# Altium integrated library SUYIN D Subminiature.IntLib: 17 symbols
Pins are listed as number, name and electrical type; pins without a type are passive.

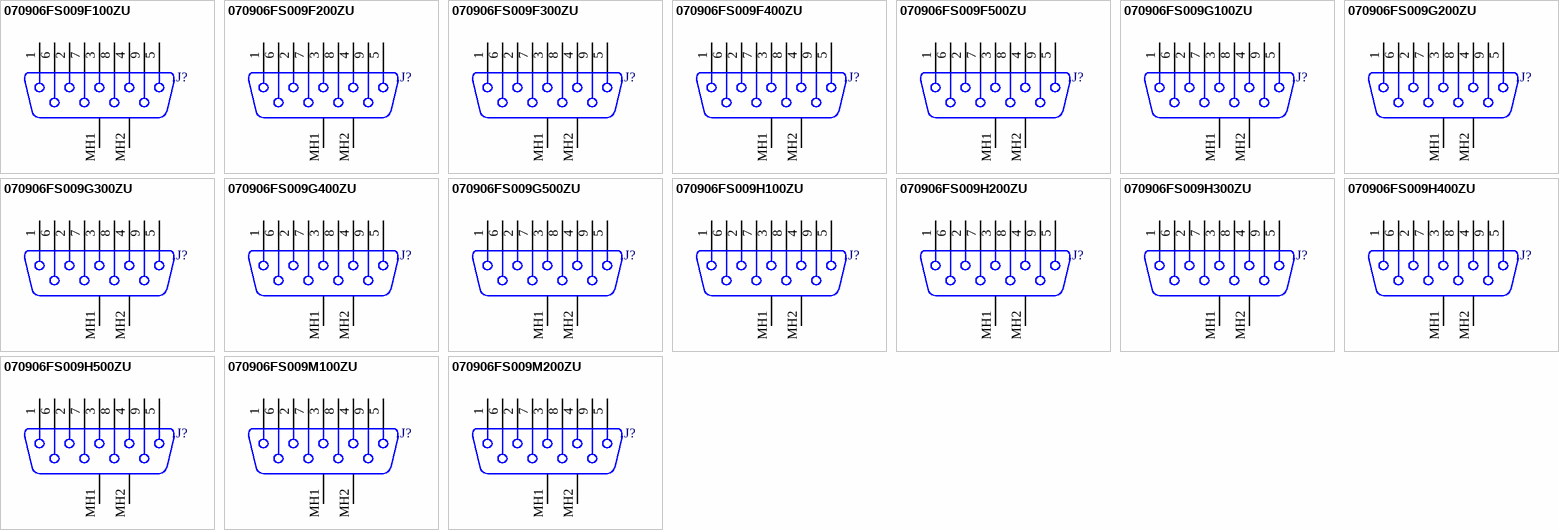
[diagram p0: symbols 070906FS009F100ZU to 070906FS009M200ZU]

## 070906FS009F100ZU
designator J?
Ultra Thin D-Sub, Straight Dip Type, Female Connector, THT, 9 Position, 2.2mm Pin Length; PCB_Layout: Complies with manufacturer's recommendation.; DrillSize: Corresponds to nominal value.; Published: 26-Sep-2008; DatasheetVersion: May-2003; PackageVersion: revK, Nov-2007; PackageReference: 070906FS009; Publisher: Altium Limited; PackageDescription: Connector; D-Sub, Thru-Hole; 9 Position; Vertical; Body 30.81 x 9.60 x 8.20 mm (LxWxH); ComponentLink1Description: Manufacturer Link; ComponentLink1URL: http://www.suyin.com/; ComponentLink2Description: Datasheet; ComponentLink2URL: http://www.suyin.at/pdf/i_o/d_sub/female/straight/070906FS.pdf
footprint 070906FS009 (Connector; D-Sub, Thru-Hole; 9 Position; Vertical; Body 30.81x9.60mm (LxW))
signal-integrity model D Subminiature
pins: 1, 2, 3, 4, 5, 6, 7, 8, 9, MH1, MH2

## 070906FS009F200ZU
designator J?
Ultra Thin D-Sub, Straight Dip Type, Female Connector, THT, 9 Position, 2.2mm Pin Length; PCB_Layout: Complies with manufacturer's recommendation.; DrillSize: Corresponds to nominal value.; Published: 26-Sep-2008; DatasheetVersion: May-2003; PackageVersion: revK, Nov-2007; PackageReference: 070906FS009; Publisher: Altium Limited; PackageDescription: Connector; D-Sub, Thru-Hole; 9 Position; Vertical; Body 30.81 x 9.60 x 8.20 mm (LxWxH); ComponentLink1Description: Manufacturer Link; ComponentLink1URL: http://www.suyin.com/; ComponentLink2Description: Datasheet; ComponentLink2URL: http://www.suyin.at/pdf/i_o/d_sub/female/straight/070906FS.pdf
footprint 070906FS009 (Connector; D-Sub, Thru-Hole; 9 Position; Vertical; Body 30.81x9.60mm (LxW))
signal-integrity model D Subminiature
pins: 1, 2, 3, 4, 5, 6, 7, 8, 9, MH1, MH2

## 070906FS009F300ZU
designator J?
Ultra Thin D-Sub, Straight Dip Type, Female Connector, THT, 9 Position, 2.2mm Pin Length; PCB_Layout: Complies with manufacturer's recommendation.; DrillSize: Corresponds to nominal value.; Published: 26-Sep-2008; DatasheetVersion: May-2003; PackageVersion: revK, Nov-2007; PackageReference: 070906FS009; Publisher: Altium Limited; PackageDescription: Connector; D-Sub, Thru-Hole; 9 Position; Vertical; Body 30.81 x 9.60 x 8.20 mm (LxWxH); ComponentLink1Description: Manufacturer Link; ComponentLink1URL: http://www.suyin.com/; ComponentLink2Description: Datasheet; ComponentLink2URL: http://www.suyin.at/pdf/i_o/d_sub/female/straight/070906FS.pdf
footprint 070906FS009 (Connector; D-Sub, Thru-Hole; 9 Position; Vertical; Body 30.81x9.60mm (LxW))
signal-integrity model D Subminiature
pins: 1, 2, 3, 4, 5, 6, 7, 8, 9, MH1, MH2

## 070906FS009F400ZU
designator J?
Ultra Thin D-Sub, Straight Dip Type, Female Connector, THT, 9 Position, 2.2mm Pin Length; PCB_Layout: Complies with manufacturer's recommendation.; DrillSize: Corresponds to nominal value.; Published: 26-Sep-2008; DatasheetVersion: May-2003; PackageVersion: revK, Nov-2007; PackageReference: 070906FS009; Publisher: Altium Limited; PackageDescription: Connector; D-Sub, Thru-Hole; 9 Position; Vertical; Body 30.81 x 9.60 x 8.20 mm (LxWxH); ComponentLink1Description: Manufacturer Link; ComponentLink1URL: http://www.suyin.com/; ComponentLink2Description: Datasheet; ComponentLink2URL: http://www.suyin.at/pdf/i_o/d_sub/female/straight/070906FS.pdf
footprint 070906FS009 (Connector; D-Sub, Thru-Hole; 9 Position; Vertical; Body 30.81x9.60mm (LxW))
signal-integrity model D Subminiature
pins: 1, 2, 3, 4, 5, 6, 7, 8, 9, MH1, MH2

## 070906FS009F500ZU
designator J?
Ultra Thin D-Sub, Straight Dip Type, Female Connector, THT, 9 Position, 2.2mm Pin Length; PCB_Layout: Complies with manufacturer's recommendation.; DrillSize: Corresponds to nominal value.; Published: 26-Sep-2008; DatasheetVersion: May-2003; PackageVersion: revK, Nov-2007; PackageReference: 070906FS009; Publisher: Altium Limited; PackageDescription: Connector; D-Sub, Thru-Hole; 9 Position; Vertical; Body 30.81 x 9.60 x 8.20 mm (LxWxH); ComponentLink1Description: Manufacturer Link; ComponentLink1URL: http://www.suyin.com/; ComponentLink2Description: Datasheet; ComponentLink2URL: http://www.suyin.at/pdf/i_o/d_sub/female/straight/070906FS.pdf
footprint 070906FS009 (Connector; D-Sub, Thru-Hole; 9 Position; Vertical; Body 30.81x9.60mm (LxW))
signal-integrity model D Subminiature
pins: 1, 2, 3, 4, 5, 6, 7, 8, 9, MH1, MH2

## 070906FS009G100ZU
designator J?
Ultra Thin D-Sub, Straight Dip Type, Female Connector, THT, 9 Position, 2.2mm Pin Length; PCB_Layout: Complies with manufacturer's recommendation.; DrillSize: Corresponds to nominal value.; Published: 26-Sep-2008; DatasheetVersion: May-2003; PackageVersion: revK, Nov-2007; PackageReference: 070906FS009; Publisher: Altium Limited; PackageDescription: Connector; D-Sub, Thru-Hole; 9 Position; Vertical; Body 30.81 x 9.60 x 8.20 mm (LxWxH); ComponentLink1Description: Manufacturer Link; ComponentLink1URL: http://www.suyin.com/; ComponentLink2Description: Datasheet; ComponentLink2URL: http://www.suyin.at/pdf/i_o/d_sub/female/straight/070906FS.pdf
footprint 070906FS009 (Connector; D-Sub, Thru-Hole; 9 Position; Vertical; Body 30.81x9.60mm (LxW))
signal-integrity model D Subminiature
pins: 1, 2, 3, 4, 5, 6, 7, 8, 9, MH1, MH2

## 070906FS009G200ZU
designator J?
Ultra Thin D-Sub, Straight Dip Type, Female Connector, THT, 9 Position, 2.2mm Pin Length; PCB_Layout: Complies with manufacturer's recommendation.; DrillSize: Corresponds to nominal value.; Published: 26-Sep-2008; DatasheetVersion: May-2003; PackageVersion: revK, Nov-2007; PackageReference: 070906FS009; Publisher: Altium Limited; PackageDescription: Connector; D-Sub, Thru-Hole; 9 Position; Vertical; Body 30.81 x 9.60 x 8.20 mm (LxWxH); ComponentLink1Description: Manufacturer Link; ComponentLink1URL: http://www.suyin.com/; ComponentLink2Description: Datasheet; ComponentLink2URL: http://www.suyin.at/pdf/i_o/d_sub/female/straight/070906FS.pdf
footprint 070906FS009 (Connector; D-Sub, Thru-Hole; 9 Position; Vertical; Body 30.81x9.60mm (LxW))
signal-integrity model D Subminiature
pins: 1, 2, 3, 4, 5, 6, 7, 8, 9, MH1, MH2

## 070906FS009G300ZU
designator J?
Ultra Thin D-Sub, Straight Dip Type, Female Connector, THT, 9 Position, 2.2mm Pin Length; PCB_Layout: Complies with manufacturer's recommendation.; DrillSize: Corresponds to nominal value.; Published: 26-Sep-2008; DatasheetVersion: May-2003; PackageVersion: revK, Nov-2007; PackageReference: 070906FS009; Publisher: Altium Limited; PackageDescription: Connector; D-Sub, Thru-Hole; 9 Position; Vertical; Body 30.81 x 9.60 x 8.20 mm (LxWxH); ComponentLink1Description: Manufacturer Link; ComponentLink1URL: http://www.suyin.com/; ComponentLink2Description: Datasheet; ComponentLink2URL: http://www.suyin.at/pdf/i_o/d_sub/female/straight/070906FS.pdf
footprint 070906FS009 (Connector; D-Sub, Thru-Hole; 9 Position; Vertical; Body 30.81x9.60mm (LxW))
signal-integrity model D Subminiature
pins: 1, 2, 3, 4, 5, 6, 7, 8, 9, MH1, MH2

## 070906FS009G400ZU
designator J?
Ultra Thin D-Sub, Straight Dip Type, Female Connector, THT, 9 Position, 2.2mm Pin Length; PCB_Layout: Complies with manufacturer's recommendation.; DrillSize: Corresponds to nominal value.; Published: 26-Sep-2008; DatasheetVersion: May-2003; PackageVersion: revK, Nov-2007; PackageReference: 070906FS009; Publisher: Altium Limited; PackageDescription: Connector; D-Sub, Thru-Hole; 9 Position; Vertical; Body 30.81 x 9.60 x 8.20 mm (LxWxH); ComponentLink1Description: Manufacturer Link; ComponentLink1URL: http://www.suyin.com/; ComponentLink2Description: Datasheet; ComponentLink2URL: http://www.suyin.at/pdf/i_o/d_sub/female/straight/070906FS.pdf
footprint 070906FS009 (Connector; D-Sub, Thru-Hole; 9 Position; Vertical; Body 30.81x9.60mm (LxW))
signal-integrity model D Subminiature
pins: 1, 2, 3, 4, 5, 6, 7, 8, 9, MH1, MH2

## 070906FS009G500ZU
designator J?
Ultra Thin D-Sub, Straight Dip Type, Female Connector, THT, 9 Position, 2.2mm Pin Length; PCB_Layout: Complies with manufacturer's recommendation.; DrillSize: Corresponds to nominal value.; Published: 26-Sep-2008; DatasheetVersion: May-2003; PackageVersion: revK, Nov-2007; PackageReference: 070906FS009; Publisher: Altium Limited; PackageDescription: Connector; D-Sub, Thru-Hole; 9 Position; Vertical; Body 30.81 x 9.60 x 8.20 mm (LxWxH); ComponentLink1Description: Manufacturer Link; ComponentLink1URL: http://www.suyin.com/; ComponentLink2Description: Datasheet; ComponentLink2URL: http://www.suyin.at/pdf/i_o/d_sub/female/straight/070906FS.pdf
footprint 070906FS009 (Connector; D-Sub, Thru-Hole; 9 Position; Vertical; Body 30.81x9.60mm (LxW))
signal-integrity model D Subminiature
pins: 1, 2, 3, 4, 5, 6, 7, 8, 9, MH1, MH2

## 070906FS009H100ZU
designator J?
Ultra Thin D-Sub, Straight Dip Type, Female Connector, THT, 9 Position, 2.2mm Pin Length; PCB_Layout: Complies with manufacturer's recommendation.; DrillSize: Corresponds to nominal value.; Published: 26-Sep-2008; DatasheetVersion: May-2003; PackageVersion: revK, Nov-2007; PackageReference: 070906FS009; Publisher: Altium Limited; PackageDescription: Connector; D-Sub, Thru-Hole; 9 Position; Vertical; Body 30.81 x 9.60 x 8.20 mm (LxWxH); ComponentLink1Description: Manufacturer Link; ComponentLink1URL: http://www.suyin.com/; ComponentLink2Description: Datasheet; ComponentLink2URL: http://www.suyin.at/pdf/i_o/d_sub/female/straight/070906FS.pdf
footprint 070906FS009 (Connector; D-Sub, Thru-Hole; 9 Position; Vertical; Body 30.81x9.60mm (LxW))
signal-integrity model D Subminiature
pins: 1, 2, 3, 4, 5, 6, 7, 8, 9, MH1, MH2

## 070906FS009H200ZU
designator J?
Ultra Thin D-Sub, Straight Dip Type, Female Connector, THT, 9 Position, 2.2mm Pin Length; PCB_Layout: Complies with manufacturer's recommendation.; DrillSize: Corresponds to nominal value.; Published: 26-Sep-2008; DatasheetVersion: May-2003; PackageVersion: revK, Nov-2007; PackageReference: 070906FS009; Publisher: Altium Limited; PackageDescription: Connector; D-Sub, Thru-Hole; 9 Position; Vertical; Body 30.81 x 9.60 x 8.20 mm (LxWxH); ComponentLink1Description: Manufacturer Link; ComponentLink1URL: http://www.suyin.com/; ComponentLink2Description: Datasheet; ComponentLink2URL: http://www.suyin.at/pdf/i_o/d_sub/female/straight/070906FS.pdf
footprint 070906FS009 (Connector; D-Sub, Thru-Hole; 9 Position; Vertical; Body 30.81x9.60mm (LxW))
signal-integrity model D Subminiature
pins: 1, 2, 3, 4, 5, 6, 7, 8, 9, MH1, MH2

## 070906FS009H300ZU
designator J?
Ultra Thin D-Sub, Straight Dip Type, Female Connector, THT, 9 Position, 2.2mm Pin Length; PCB_Layout: Complies with manufacturer's recommendation.; DrillSize: Corresponds to nominal value.; Published: 26-Sep-2008; DatasheetVersion: May-2003; PackageVersion: revK, Nov-2007; PackageReference: 070906FS009; Publisher: Altium Limited; PackageDescription: Connector; D-Sub, Thru-Hole; 9 Position; Vertical; Body 30.81 x 9.60 x 8.20 mm (LxWxH); ComponentLink1Description: Manufacturer Link; ComponentLink1URL: http://www.suyin.com/; ComponentLink2Description: Datasheet; ComponentLink2URL: http://www.suyin.at/pdf/i_o/d_sub/female/straight/070906FS.pdf
footprint 070906FS009 (Connector; D-Sub, Thru-Hole; 9 Position; Vertical; Body 30.81x9.60mm (LxW))
signal-integrity model D Subminiature
pins: 1, 2, 3, 4, 5, 6, 7, 8, 9, MH1, MH2

## 070906FS009H400ZU
designator J?
Ultra Thin D-Sub, Straight Dip Type, Female Connector, THT, 9 Position, 2.2mm Pin Length; PCB_Layout: Complies with manufacturer's recommendation.; DrillSize: Corresponds to nominal value.; Published: 26-Sep-2008; DatasheetVersion: May-2003; PackageVersion: revK, Nov-2007; PackageReference: 070906FS009; Publisher: Altium Limited; PackageDescription: Connector; D-Sub, Thru-Hole; 9 Position; Vertical; Body 30.81 x 9.60 x 8.20 mm (LxWxH); ComponentLink1Description: Manufacturer Link; ComponentLink1URL: http://www.suyin.com/; ComponentLink2Description: Datasheet; ComponentLink2URL: http://www.suyin.at/pdf/i_o/d_sub/female/straight/070906FS.pdf
footprint 070906FS009 (Connector; D-Sub, Thru-Hole; 9 Position; Vertical; Body 30.81x9.60mm (LxW))
signal-integrity model D Subminiature
pins: 1, 2, 3, 4, 5, 6, 7, 8, 9, MH1, MH2

## 070906FS009H500ZU
designator J?
Ultra Thin D-Sub, Straight Dip Type, Female Connector, THT, 9 Position, 2.2mm Pin Length; PCB_Layout: Complies with manufacturer's recommendation.; DrillSize: Corresponds to nominal value.; Published: 26-Sep-2008; DatasheetVersion: May-2003; PackageVersion: revK, Nov-2007; PackageReference: 070906FS009; Publisher: Altium Limited; PackageDescription: Connector; D-Sub, Thru-Hole; 9 Position; Vertical; Body 30.81 x 9.60 x 8.20 mm (LxWxH); ComponentLink1Description: Manufacturer Link; ComponentLink1URL: http://www.suyin.com/; ComponentLink2Description: Datasheet; ComponentLink2URL: http://www.suyin.at/pdf/i_o/d_sub/female/straight/070906FS.pdf
footprint 070906FS009 (Connector; D-Sub, Thru-Hole; 9 Position; Vertical; Body 30.81x9.60mm (LxW))
signal-integrity model D Subminiature
pins: 1, 2, 3, 4, 5, 6, 7, 8, 9, MH1, MH2

## 070906FS009M100ZU
designator J?
Ultra Thin D-Sub, Straight Dip Type, Female Connector, THT, 9 Position, 2.2mm Pin Length; PCB_Layout: Complies with manufacturer's recommendation.; DrillSize: Corresponds to nominal value.; Published: 26-Sep-2008; DatasheetVersion: May-2003; PackageVersion: revK, Nov-2007; PackageReference: 070906FS009; Publisher: Altium Limited; PackageDescription: Connector; D-Sub, Thru-Hole; 9 Position; Vertical; Body 30.81 x 9.60 x 8.20 mm (LxWxH); ComponentLink1Description: Manufacturer Link; ComponentLink1URL: http://www.suyin.com/; ComponentLink2Description: Datasheet; ComponentLink2URL: http://www.suyin.at/pdf/i_o/d_sub/female/straight/070906FS.pdf
footprint 070906FS009 (Connector; D-Sub, Thru-Hole; 9 Position; Vertical; Body 30.81x9.60mm (LxW))
signal-integrity model D Subminiature
pins: 1, 2, 3, 4, 5, 6, 7, 8, 9, MH1, MH2

## 070906FS009M200ZU
designator J?
Ultra Thin D-Sub, Straight Dip Type, Female Connector, THT, 9 Position, 2.2mm Pin Length; PCB_Layout: Complies with manufacturer's recommendation.; DrillSize: Corresponds to nominal value.; Published: 26-Sep-2008; DatasheetVersion: May-2003; PackageVersion: revK, Nov-2007; PackageReference: 070906FS009; Publisher: Altium Limited; PackageDescription: Connector; D-Sub, Thru-Hole; 9 Position; Vertical; Body 30.81 x 9.60 x 8.20 mm (LxWxH); ComponentLink1Description: Manufacturer Link; ComponentLink1URL: http://www.suyin.com/; ComponentLink2Description: Datasheet; ComponentLink2URL: http://www.suyin.at/pdf/i_o/d_sub/female/straight/070906FS.pdf
footprint 070906FS009 (Connector; D-Sub, Thru-Hole; 9 Position; Vertical; Body 30.81x9.60mm (LxW))
signal-integrity model D Subminiature
pins: 1, 2, 3, 4, 5, 6, 7, 8, 9, MH1, MH2